# Altium schematic symbol library 430182070816.SchLib: 1 symbol
Pins are listed as number, name and electrical type; pins without a type are passive.

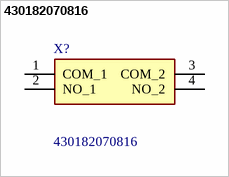
[diagram p0: symbol 430182070816]

## 430182070816
designator X?
WURTH ELEKTRONIK - 430182070816 - SWITCH, 160GF, 6X6MM,SMD, 7MM ACT; Geometry.Height: 7.15mm; Manufacturer_Name: Wurth Elektronik; Manufacturer_Part_Number: 430182070816; Mouser Part Number: 710-430182070816; Mouser Price/Stock: https://www.mouser.co.uk/ProductDetail/Wurth-Elektronik/430182070816?qs=wr8lucFkNMXtq9RwGFkUbg%3D%3D; Arrow Part Number: *; Arrow Price/Stock: *; Datasheet Link: https://datasheet.datasheetarchive.com/originals/distributors/DKDS-9/165015.pdf
footprint 430182070816
pins: 1 COM_1, 2 NO_1, 3 COM_2, 4 NO_2